# EAGLE library part RK14K (library alps)
14mm Size Insulated Shaft Snap-in Type RK14K Series
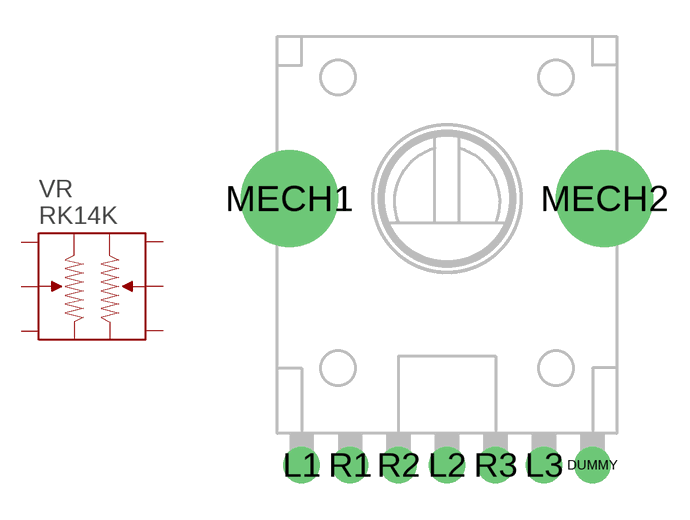
[diagram p0: symbol with the pads of RK14K; footprint RK14K]

Designator prefix VR

## RK14K  [RK14K]
L1  IN_L
L2  WIPER_L
L3  OUT_L
R1  IN_R
R2  WIPER_R
R3  OUT_R

## Footprint RK14K (pad centres in mm)
drill 1: DUMMY 6,-11; L1 -6,-11; L2 0,-11; L3 4,-11; R1 -4,-11; R2 -2,-11; R3 2,-11
drill 3: MECH1 -6.5,0; MECH2 6.5,0